# Altium schematic symbol library ABM8AIG-8MHZ-8-V1R-T.SchLib: 1 symbol
Pins are listed as number, name and electrical type; pins without a type are passive.

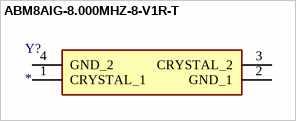
[diagram p0: symbol ABM8AIG-8.000MHZ-8-V1R-T]

## ABM8AIG-8.000MHZ-8-V1R-T
designator Y?
Crystal or Oscillator; Manufacturer_Name: ABRACON; Manufacturer_Part_Number: ABM8AIG-8.000MHZ-8-V1R-T; Description: Crystals 8pF 8MHz 10ppm AEC-Q200 -40C +150C; Datasheet Link: https://abracon.com/AIGcrystals/ABM8AIG.pdf; Height: 0mm; Mouser Part Number: 815-M8AIG-8-8-V1RT; Mouser Price/Stock: https://www.mouser.co.uk/ProductDetail/ABRACON/ABM8AIG-8.000MHZ-8-V1R-T?qs=uwxL4vQweFPFV%252BR1rvl93Q%3D%3D; Arrow Part Number: ABM8AIG-8.000MHZ-8-V1R-T; Arrow Price/Stock: https://www.arrow.com/en/products/abm8aig-8.000mhz-8-v1r-t/abracon?region=europe
footprint ABM8AIG25000MHZ122ZT3
pins: 1 CRYSTAL_1, 2 GND_1, 3 CRYSTAL_2, 4 GND_2